# EAGLE library part 74HC125 (library 74HC125)
Check availability <https://pricing.snapeda.com/parts/74HC125/Nexperia%20USA/view-part?ref=eda>
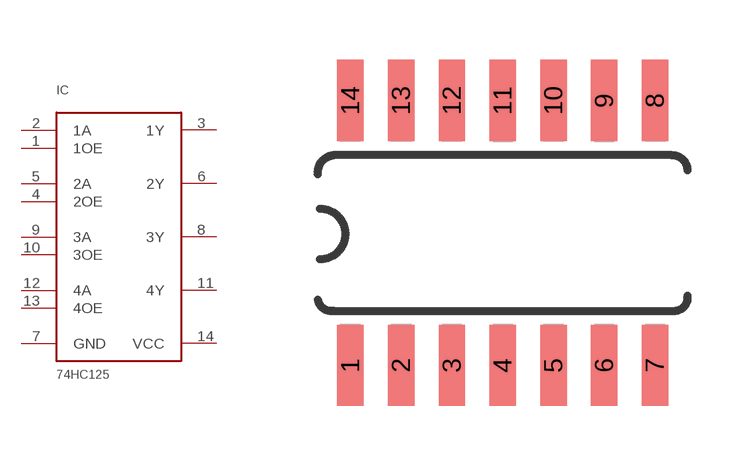
[diagram p0: symbol with the pads of SOIC-14; footprint SOIC-14]

Designator prefix IC

## 74HC125 (Availability: In Stock; Description: Buffer, Non-Inverting 4 Element 1 Bit per Element 3-State Output 14-TSSOP; MF: Nexperia USA; MP: 74HC125; Package: SOIC-14 STMicroelectronics; Price: None; Purchase-URL: https://pricing.snapeda.com/search/part/74HC125/?ref=eda)  [SOIC-14]
1  1OE
2  1A
3  1Y
4  2OE
5  2A
6  2Y
7  GND
8  3Y
9  3A
10  3OE
11  4Y
12  4A
13  4OE
14  VCC

## Footprint SOIC-14 (pad centres in mm)
smd 0.66 x 2.032: 1 0,-0.775; 2 1.27,-0.775; 3 2.54,-0.775; 4 3.81,-0.775; 5 5.08,-0.775; 6 6.35,-0.775; 7 7.62,-0.775; 8 7.62,5.855; 9 6.35,5.855; 10 5.08,5.855; 11 3.81,5.855; 12 2.54,5.855; 13 1.27,5.855; 14 0,5.855